# Altium schematic symbol library Beethoven-clock.SchLib: 36 symbols
Pins are listed as number, name and electrical type; pins without a type are passive.

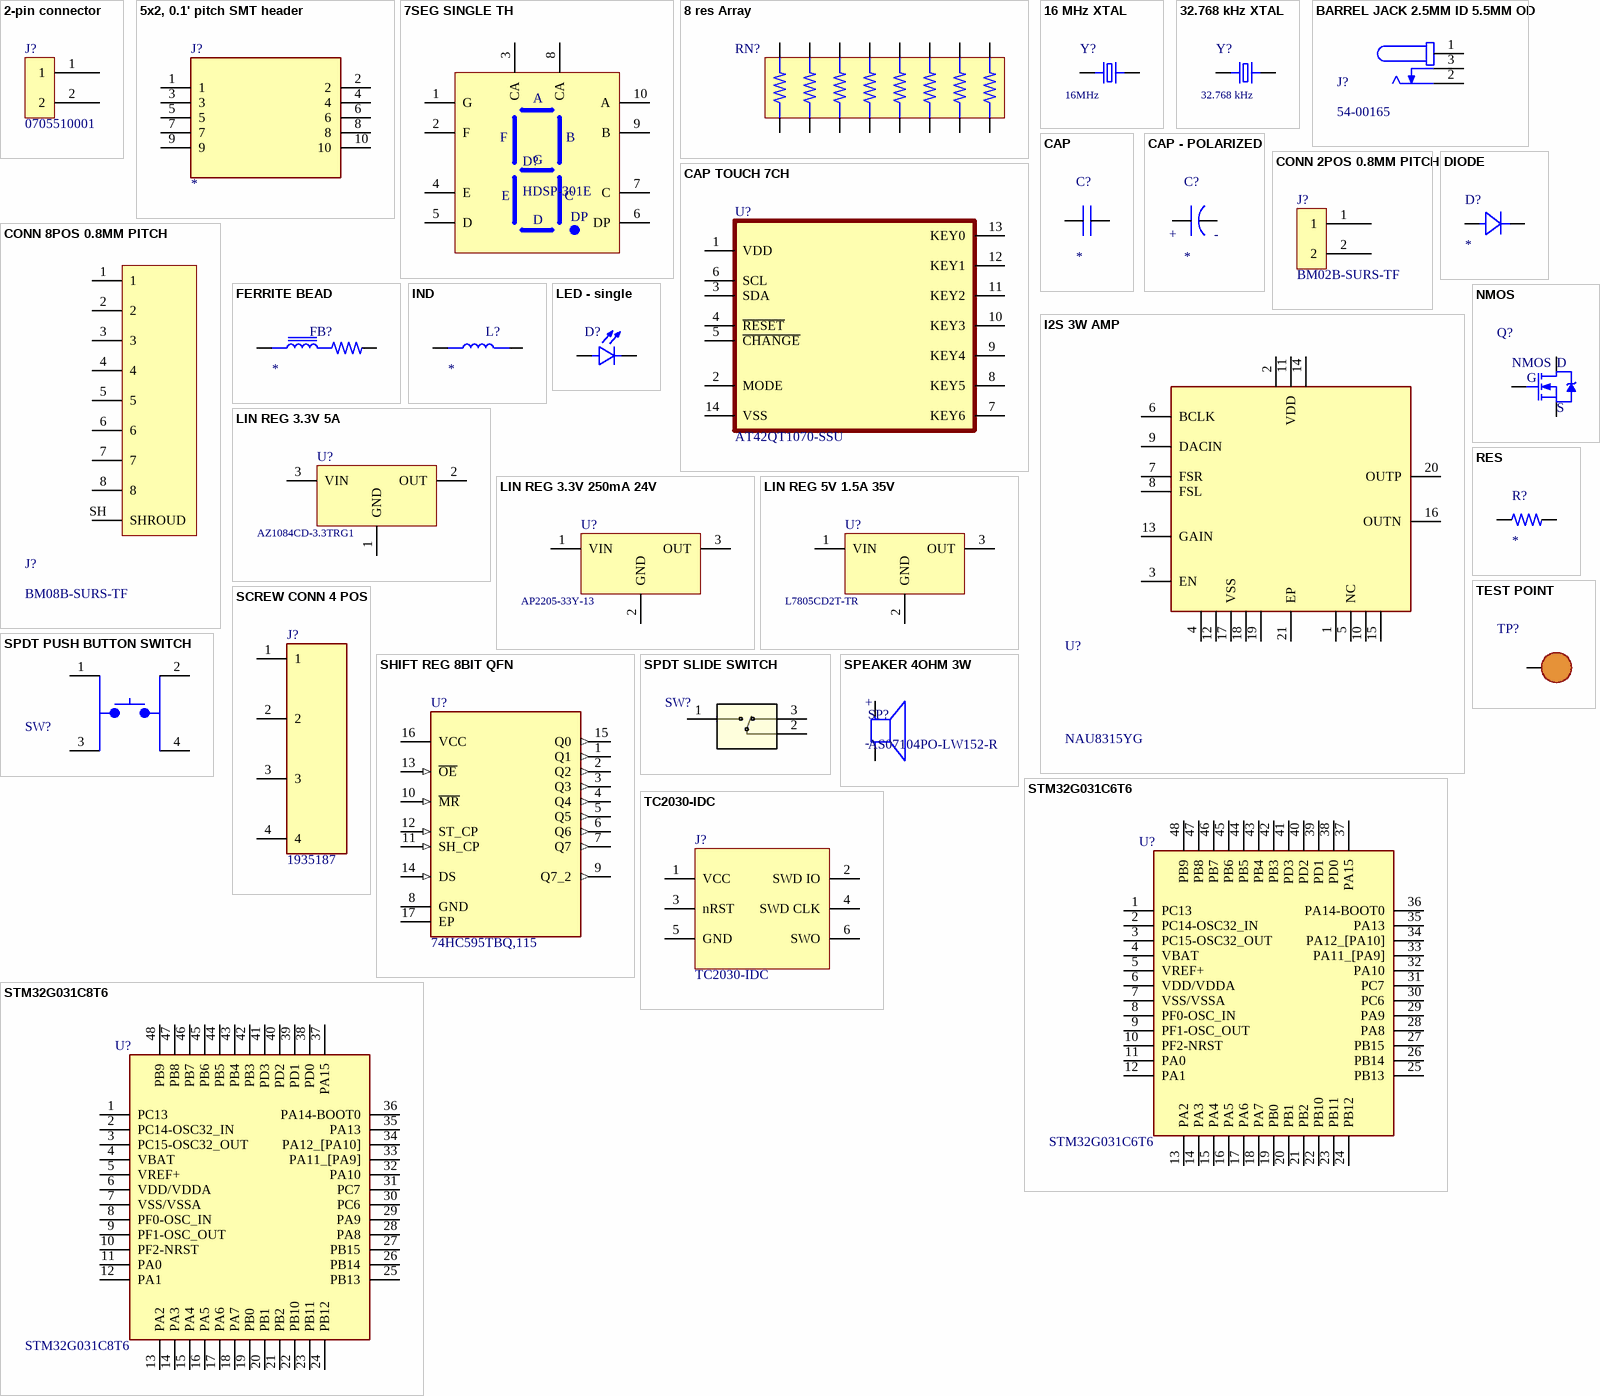
[diagram p0: symbols 2-pin connector to TEST POINT]

## 2-pin connector
designator J?, comment 0705510001
CONN HEADER R/A 2POS 2.54MM; MFR: MOLEX; MFR PN: 0705510001; Vendor: *; Vendor PN: *; Vendor Link: *; Type: TH
footprint CONN_MOLEX_705510001
pins: 1, 2

## 5x2, 0.1' pitch SMT header
designator J?
CONN HEADER SMD 10POS 2.54MM; MFR: CNC Tech; MFR PN: 3020-10-0300-00; Vendor: *; Vendor PN: *; Vendor Link: *; Type: SMD
footprint 5x2, 0.1' pitch SMT header (CONN HEADER SMD 10POS 2.54MM)
pins: 1, 2, 3, 4, 5, 6, 7, 8, 9, 10

## 7SEG SINGLE TH
designator D?, comment HDSP-301E
DISPLAY 7-SEG 0.4" SGL RED 10DIP; MFR: Broadcom Limited; Type: TH; MFR PN: HDSP-301E
footprint 10-DIP_7SEG
pins: 1 G, 2 F, 3 CA, 4 E, 5 D, 6 DP, 7 C, 8 CA, 9 B, 10 A

## 8 res Array
designator RN?
ComponentLink1Description: New link; ComponentLink1URL: *; ComponentLink2Description: New link 1; ComponentLink2URL: *; Value: *
footprint RES_ARR_TEST
pins: 1, 2, 3, 4, 5, 6, 7, 8, 9, 10, 11, 12, 13, 14, 15, 16

## 16 MHz XTAL
designator Y?, comment 16MHz
CRYSTAL 16.0000MHZ 9PF SMD; MFR: EPSON; MFR PN: TSX-3225 16.0000MF09Z-AC0; Vendor: *; Vendor PN: *; Vendor Link: *; Type: SMD; Frequency: 16MHz
footprint 4-SMD_NL
pins: 1, 2

## 32.768 kHz XTAL
designator Y?, comment 32.768 kHz
SMD Tuning Fork Crystal; MFR: ECS Inc.; MFR PN: ECS-.327-7-12R-TR; Vendor: *; Vendor PN: *; Vendor Link: *; Type: SMD; Frequency: 32.768 kHz
footprint ECS-.327-7-12R-TR
pins: 1, 2

## BARREL JACK 2.5MM ID 5.5MM OD
designator J?, comment 54-00165
Connector, dc jack 5.5x2.5 mm, PCB mount, 90 degrees, silver plated, PA9T, SMT; MFR: Tensility International Corp; MFR PN: 54-00165; Type: SMD
footprint TENSILITY_54-00165
pins: 1 A, 2, 3

## CAP
designator C?  (value not drawn)
Capacitor; Type: SMD; MFR: *; MFR PN: *; Value: *
footprint 0402C (0402 SMT Capacitor)
pins: 1, 2

## CAP - POLARIZED
designator C?, comment CAP  (value not drawn)
Capacitor; MFR: *; MFR PN: *; Vendor: *; Vendor PN: *; Vendor Link: *; Value: *
footprint CAP_CAN_POLY
pins: 1, 2
text: +; -

## CAP TOUCH 7CH
designator U?, comment AT42QT1070-SSU
Capacitive Touch Buttons 14-SOIC; MFR: Microchip; Value: *; MFR PN: AT42QT1070-SSU; Type: SMD
footprint 14-SOIC
pins: 1 VDD, 2 MODE, 3 SDA, 4 ~{RESET}, 5 ~{CHANGE}, 6 SCL, 7 KEY6, 8 KEY5, 9 KEY4, 10 KEY3, 11 KEY2, 12 KEY1, 13 KEY0, 14 VSS

## CONN 2POS 0.8MM PITCH
designator J?, comment BM02B-SURS-TF
CONN HEADER SMD 2POS 0.8MM; MFR: JST; MFR PN: BM02B-SURS-TF; Type: SMD
footprint BM02B-SURS-TF
pins: 1, 2

## CONN 8POS 0.8MM PITCH
designator J?, comment BM08B-SURS-TF
CONN HEADER SMD 8POS 0.8MM; MFR: JST; MFR PN: BM08B-SURS-TF; Type: SMD
footprint JST_BM08B-SURS-TF(LF)(SN)
pins: 1, 2, 3, 4, 5, 6, 7, 8, SH SHROUD

## DIODE
designator D?
DIODE GEN PURP; MFR: *; MFR PN: *; Value: *; Type: *
footprint DO-214AC
pins: A, K

## FERRITE BEAD
designator FB?
Type: SMD; MFR: *; MFR PN: *; Value: *
footprint 0402FB (0402 SMT Resistor)
pins: 1, 2

## I2S 3W AMP
designator U?, comment NAU8315YG
I2S MONO 3.2W CLASS-D AMPLIFIER; MFR: Nuvoton; MFR PN: NAU8315YG; Value: *; Type: SMD; Power Rating: 3.2W
footprint 20-WFQFN-EP
pins: 1 NC, 2 VDD, 3 EN, 4 VSS, 5 NC, 6 BCLK, 7 FSR, 8 FSL, 9 DACIN, 10 NC, 11 VDD, 12 VSS, 13 GAIN, 14 VDD, 15 NC, 16 OUTN, 17 VSS, 18 VSS, 19 VSS, 20 OUTP, 21 EP

## IND
designator L?
Type: SMD; MFR: *; MFR PN: *; Value: *
footprint 0402FB (0402 SMT Resistor)
footprint 1210L (Ceramic Capacitors, body 3.2x2.5mm)
pins: 1, 2

## LED - single
designator D?  (value not drawn)
LED; Type: SMD; Color: *; MFR: *; MFR PN: *
footprint LED - 0603
pins: 1 A, 2 C

## LIN REG 3.3V 5A
designator U?, comment AZ1084CD-3.3TRG1
IC REG LINEAR 3.3V 5A TO252-2; MFR: Diodes Incorporated; MFR PN: AZ1084CD-3.3TRG1; Type: SMD
footprint TO-252-3
pins: 1 GND, 2 OUT, 3 VIN

## LIN REG 3.3V 250mA 24V
designator U?, comment AP2205-33Y-13
IC REG LINEAR 3.3V 250MA SOT89-3; MFR: Diodes Incorporated; MFR PN: AP2205-33Y-13; Type: SMD
footprint SOT-89-3
pins: 1 VIN, 2 GND, 3 OUT

## LIN REG 5V 1.5A 35V
designator U?, comment L7805CD2T-TR
Linear Voltage Regulator IC Positive Fixed 1 Output 1.5A D2PAK; MFR: STMicroelectronics; MFR PN: L7805CD2T-TR; Type: SMD
footprint D2PAK
pins: 1 VIN, 2 GND, 3 OUT

## NMOS
designator Q?
N-Channel MOSFET; MFR PN: DMN63D8L-7; MFR: Diodes Incorporated; Type: SMD; Vendor: *; Vendor PN: *; Vendor Link: *
footprint SOT-23
pins: 1 G, 2 S, 3 D

## RES
designator R?
Resistor; MFR PN: *; MFR: *; Type: SMD; Value: *
footprint 0402R (0402 SMT Resistor)
pins: 1, 2

## SCREW CONN 4 POS
designator J?, comment 1935187
Fixed Terminal Blocks PT 1.5/4-5.0-H; MFR: Phoenix Contact; MFR PN: 1935187; Type: TH
footprint 1935187
pins: 1, 2, 3, 4

## SHIFT REG 8BIT QFN
designator U?, comment 74HC595TBQ,115
IC 8BIT SHIFT REGISTER 16-DHVQFN; MFR: Nexperia USA Inc.; MFR PN: 74HCT595BQ,115; Type: SMD; Package: QFN
footprint 16-VFQN-EP
pins: 1 Q1 (out), 2 Q2 (out), 3 Q3 (out), 4 Q4 (out), 5 Q5 (out), 6 Q6 (out), 7 Q7 (out), 8 GND, 9 Q7_2 (out), 10 ~{MR} (in), 11 SH_CP (in), 12 ST_CP (in), 13 ~{OE} (in), 14 DS (in), 15 Q0 (out), 16 VCC (power), 17 EP

## SPDT PUSH BUTTON SWITCH
designator SW?  (value not drawn)
SWITCH TACTILE SPST-NO 0.05A 12V; MFR: Würth Elektronik; MFR PN: 430152080826; Vendor: *; Vendor PN: *; Vendor Link: *; Type: SMD
footprint 430152080826
pins: 1, 2, 3, 4

## SPDT SLIDE SWITCH
designator SW?
MFR: C&K; MFR PN: JS102011SCQN; Type: SMD
footprint JS102011SCQN
pins: 1, 2, 3

## SPEAKER 4OHM 3W
designator SP?, comment AS07104PO-LW152-R
SPEAKER 4OHM 3W TOP PORT 86DB; MFR: PUI Audio, Inc.; MFR PN: AS04004PO-2-LW152-R; Type: TH; Power Rating: 3W
footprint 26AWG_AS04004PO-2-LW152-R_SideMount
pins: N, P
text: +; -

## STM32G031C6T6
designator U?
STM32G031C6T6 - ARM MCU, STM32 Family STM32G0 Series Microcontrollers, ARM Cortex-M0+, 32bit, 64 MHz, 32 KB, 8 KB; MFR: STMicroelectronics; MFR PN: STM32G031C6T6; Vendor: *; Vendor PN: *; Vendor Link: *; Type: SMD
footprint 48-LQFP
pins: 1 PC13, 2 PC14-OSC32_IN, 3 PC15-OSC32_OUT, 4 VBAT, 5 VREF+, 6 VDD/VDDA, 7 VSS/VSSA, 8 PF0-OSC_IN, 9 PF1-OSC_OUT, 10 PF2-NRST, 11 PA0, 12 PA1, 13 PA2, 14 PA3, 15 PA4, 16 PA5, 17 PA6, 18 PA7, 19 PB0, 20 PB1, 21 PB2, 22 PB10, 23 PB11, 24 PB12, 25 PB13, 26 PB14, 27 PB15, 28 PA8, 29 PA9, 30 PC6, 31 PC7, 32 PA10, 33 PA11_[PA9], 34 PA12_[PA10], 35 PA13, 36 PA14-BOOT0, 37 PA15, 38 PD0, 39 PD1, 40 PD2, 41 PD3, 42 PB3, 43 PB4, 44 PB5, 45 PB6, 46 PB7, 47 PB8, 48 PB9

## STM32G031C8T6
designator U?
ARM® Cortex®-M0+ STM32G0 Microcontroller IC 32-Bit Single-Core 64MHz 64KB (64K x 8) FLASH 48-LQFP (7x7); MFR: STMicroelectronics; MFR PN: STM32G031C8T6; Type: SMD
footprint 48-LQFP
pins: 1 PC13, 2 PC14-OSC32_IN, 3 PC15-OSC32_OUT, 4 VBAT, 5 VREF+, 6 VDD/VDDA, 7 VSS/VSSA, 8 PF0-OSC_IN, 9 PF1-OSC_OUT, 10 PF2-NRST, 11 PA0, 12 PA1, 13 PA2, 14 PA3, 15 PA4, 16 PA5, 17 PA6, 18 PA7, 19 PB0, 20 PB1, 21 PB2, 22 PB10, 23 PB11, 24 PB12, 25 PB13, 26 PB14, 27 PB15, 28 PA8, 29 PA9, 30 PC6, 31 PC7, 32 PA10, 33 PA11_[PA9], 34 PA12_[PA10], 35 PA13, 36 PA14-BOOT0, 37 PA15, 38 PD0, 39 PD1, 40 PD2, 41 PD3, 42 PB3, 43 PB4, 44 PB5, 45 PB6, 46 PB7, 47 PB8, 48 PB9

## TC2030-IDC
designator J?
"Plug of Nails" POGO Pin connector; MFR PN: TC2030-IDC-NL; MFR: Tag-Connect; Value: DNS
footprint TAG CONNECT TC2030IDC - NO 3D MODEL
pins: 1 VCC, 2 SWD IO, 3 nRST, 4 SWD CLK, 5 GND, 6 SWO

## TEST POINT
designator TP?, comment RCWCTE  (value not drawn)
Test Point, Surface Mount; MFR: KOA Speer Electronics, Inc.; MFR PN: RCWCTE; Type: SMD
footprint RCWCTE
pins: 1 0

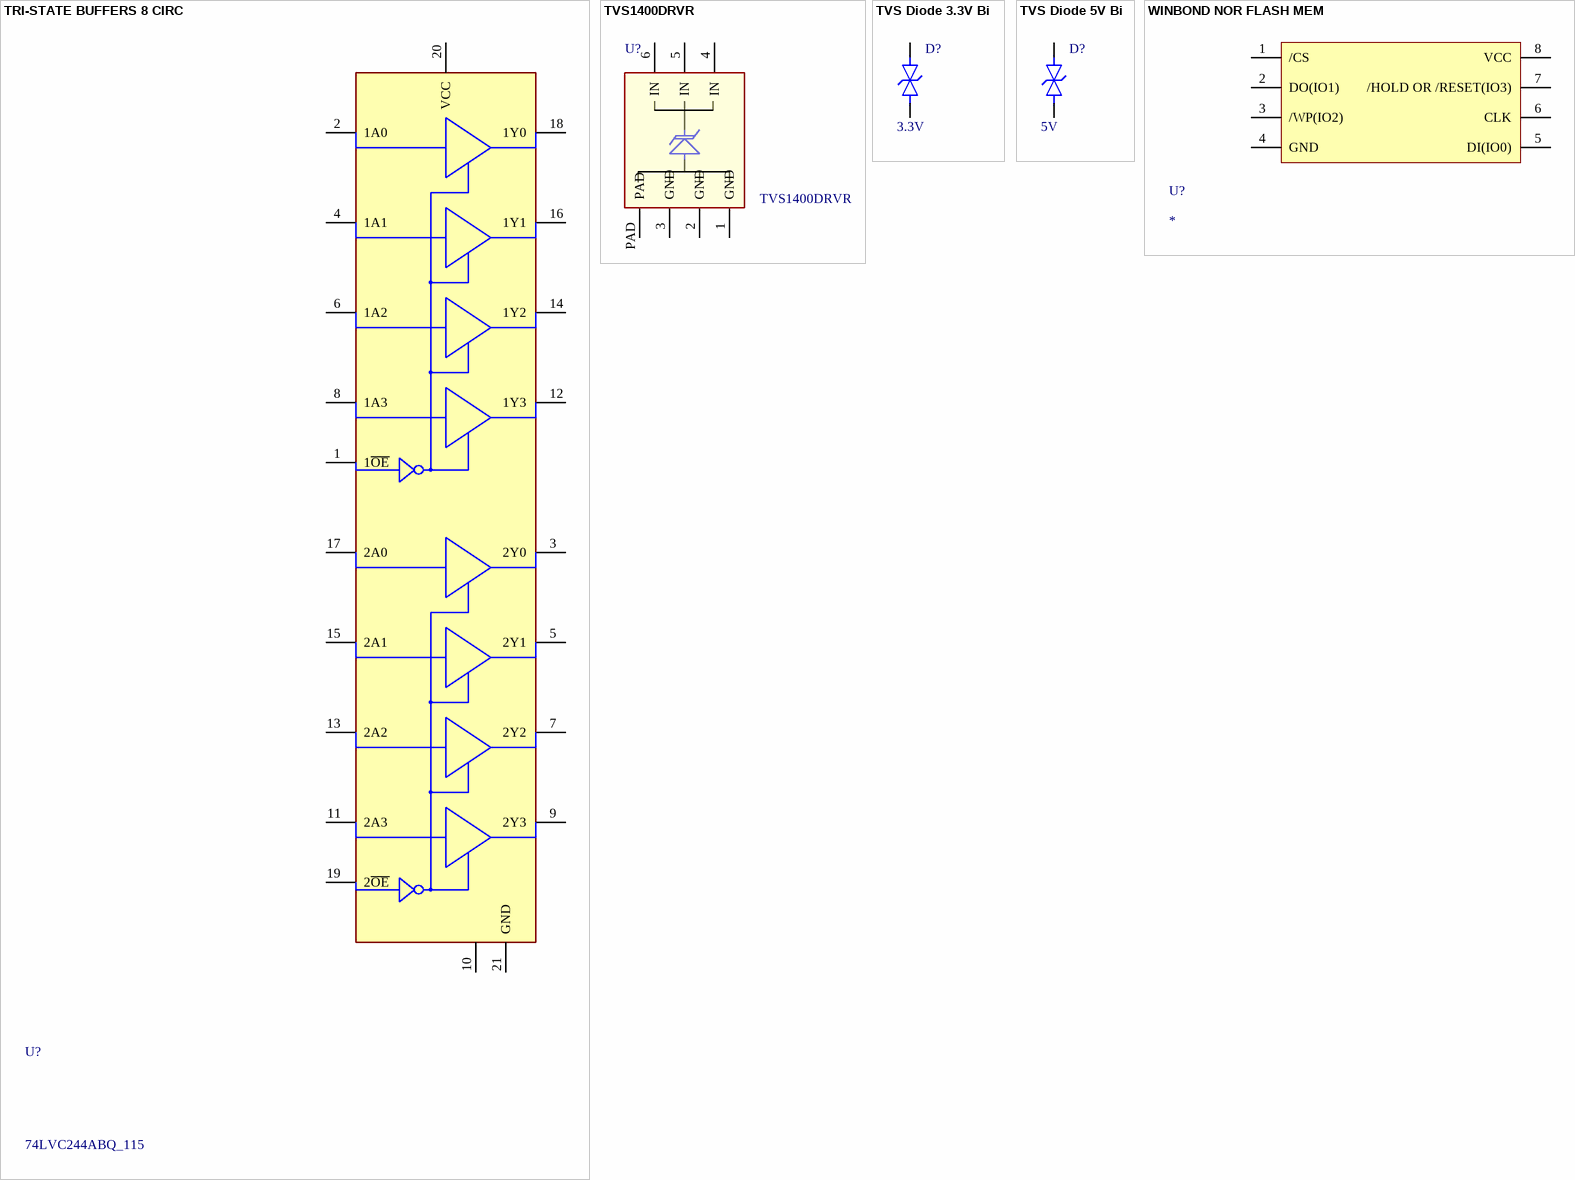
[diagram p1: symbols TRI-STATE BUFFERS 8 CIRC to WINBOND NOR FLASH MEM]

## TRI-STATE BUFFERS 8 CIRC
designator U?, comment 74LVC244ABQ_115
NXP 74LVC244ABQ,115 Octal Buffer & Line Driver, 3-State, 1.2  3.6 V, 20-Pin DHVQFN; MFR: Nexperia; MFR PN: 74LVC244ABQ,115; Value: 74LVC244ABQ,115; Type: SMD
footprint 20-VFQN-EP
pins: 1 1~{OE}, 2 1A0, 3 2Y0, 4 1A1, 5 2Y1, 6 1A2, 7 2Y2, 8 1A3, 9 2Y3, 10 GND, 11 2A3, 12 1Y3, 13 2A2, 14 1Y2, 15 2A1, 16 1Y1, 17 2A0, 18 1Y0, 19 2~{OE}, 20 VCC, 21 GND

## TVS1400DRVR
designator U?
UNIDIR  PRECISION SURGE DIODE; MFR: Texas Instruments; MFR PN: TVS1400DRVR; Value: *; Type: SMD
footprint 6-WDFN-EP
pins: 1 GND, 2 GND, 3 GND, 4 IN, 5 IN, 6 IN, PAD

## TVS Diode 3.3V Bi
designator D?, comment VRS: 3.3V  (hidden comment: DESD3V3E1BL-7B)
TVS DIODE 3.3VWM 7VC DFN1006-2; MFR: Diodes Incorporated; Type: SMD; VBR: 3.8V; VC: 7V; MFR PN: DESD3V3E1BL-7B
footprint 0402-TVS
pins: 1, 2

## TVS Diode 5V Bi
designator D?, comment VRS: 5V  (hidden comment: DESD5V0U1BL-7B)
TVS DIODE 5VWM 7.2VC DFN1006-2; MFR: Diodes Incorporated; Type: SMD; VBR: 5.5V; VC: 7.2V; MFR PN: DESD5V0U1BL-7B
footprint 0402-TVS
pins: 1, 2

## WINBOND NOR FLASH MEM
designator U?
FLASH - NOR Memory IC SPI; MFR: Winbond; MFR PN: W25*******; Type: SMD; Value: *
footprint 8-SOIC
pins: 1 /CS, 2 DO(IO1), 3 /WP(IO2), 4 GND (power), 5 DI(IO0), 6 CLK, 7 /HOLD OR /RESET(IO3), 8 VCC (power)